# Altium schematic symbol library Micron Memory Serial NOR Flash.SchLib: 207 symbols (part 7 of 12)
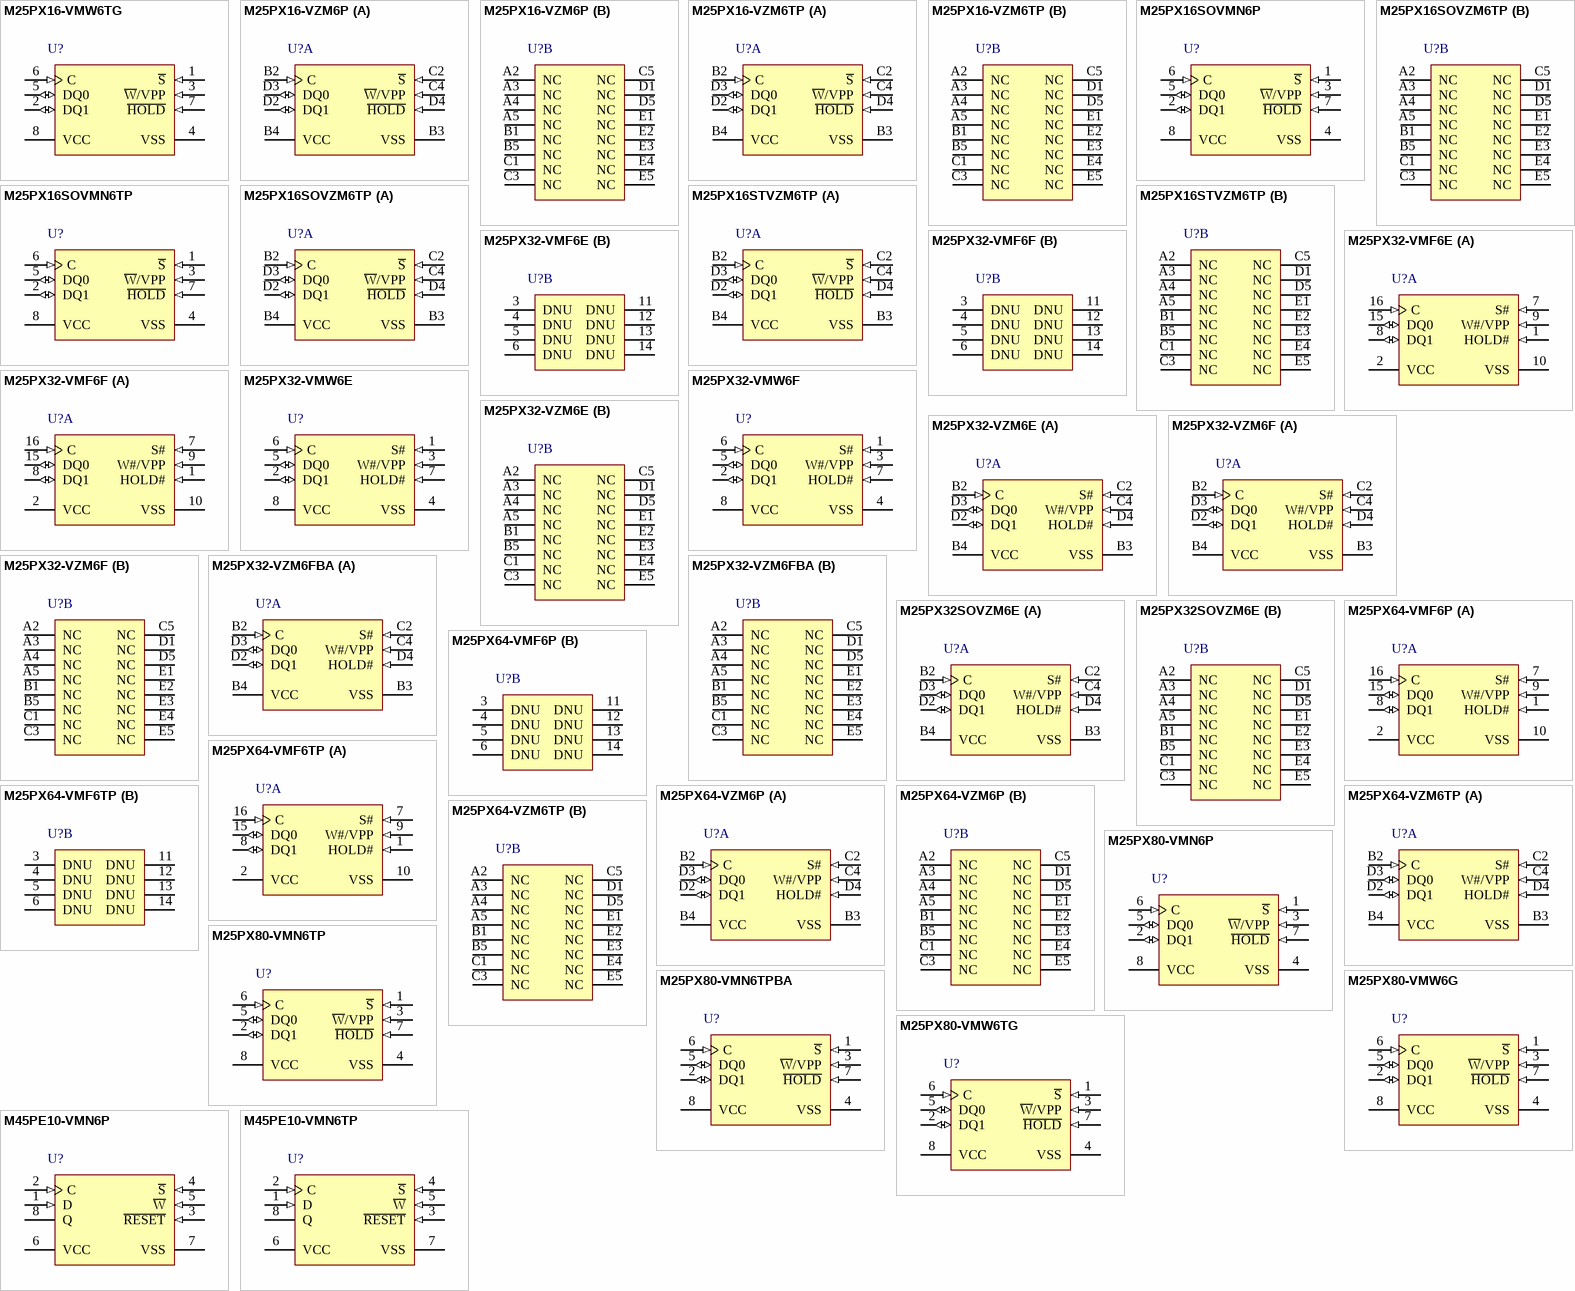
[diagram p13: symbols M25PX16-VMW6TG to M45PE10-VMN6TP]

## M25PX32-VZM6E
designator U?
32 Mb (x1/x2) Serial NOR Flash Memory with Dual I/O, 75 MHz, 2.7 to 3.6 V, 24-ball TBGA (ZM), Tray; Part Family: M25PX; Manufacturer: Micron; PartNumber: M25PX32-VZM6E; Density: 32Mb; Speed: 75 MHz; Voltage: 2.7V-3.6V; DatasheetVersion: Rev.A; PackageVersion: Rev. 8; PackageReference: MICT-ZM-24; PackageDescription: 24-Ball TPBGA, 8 X 6 mm, Pitch 1 mm; Applications: Embedded; Package: TBGA; Part Status: Production; RoHS: Yes; Type: Dual I/O; Width: x1/x2; Mounting Technology: Surface Mount; ComponentLink1Description: Manufacturer URL; ComponentLink1URL: http://www.micron.com/; ComponentLink2Description: Datasheet; ComponentLink2URL: http://www.micron.com/~/media/Documents/Products/Data%20Sheet/NOR%20Flash/Serial%20NOR/M25P/M25P128.pdf; ComponentLink3Description: Package Specification; ComponentLink3URL: http://www.micron.com/~/media/Documents/Products/Data%20Sheet/NOR%20Flash/Serial%20NOR/M25P/M25P16.pdf
footprint MICT-ZM-24 (BGA, 24-Balls, Body 8x6mm,Pitch 1mm)
part A pins: B2 C (in) "Clock: The C input signal provides the timing of the serial interface. Commands, addresses, or data present at serial data input (DQ0) is latched on the rising edge of the serial clock (C). Data on DQ1 changes after the (See Datasheet)", B3 VSS (power) "Ground: Reference for the VCC supply voltage.", B4 VCC (power) "Device core power supply: Source voltage.", C2 S# (in) "Chip select: When the S# input signal is HIGH, the device is deselected and DQ1 is at HIGH impedance. Unless an internal PROGRAM, ERASE, or WRITE STATUS REGISTER cycle is in progress, the device will be in the standby power (See Datasheet)", C4 W#/VPP (in) "Write protect/enhanced program supply voltage:The W#/VPP signal is both a control input and a power supply pin. The two functions are selected by the voltage range applied to the pin. If the W#/VPP input is kept in a low (See Datasheet)", D2 DQ1 (io) "Serial data: The DQ1 output signal is used to transfer data serially out of the device. Data is shifted out on the falling edge of the serial clock (C). During the DUAL INPUT FAST PROGRAM command, pin DQ1 is used as an input.(See Datasheet)", D3 DQ0 (io) "Serial data: The DQ0 input signal is used to transfer data serially into the device. It receives commands, addresses, and the data to be programmed. Values are latched on the rising edge of the serial clock (C). During the (See Datasheet)", D4 HOLD# (in) "Hold: The HOLD# signal is used to pause any serial communications with the device without deselecting the device. During the hold condition, DQ1 is High-Z. DQ0 and C are "Don’t Care." To start the hold condition, the device (See Datasheet)"
part B pins: A2 NC "no connect.", A3 NC "no connect.", A4 NC "no connect.", A5 NC "no connect.", B1 NC "no connect.", B5 NC "no connect.", C1 NC "no connect.", C3 NC "no connect.", C5 NC "no connect.", D1 NC "no connect.", D5 NC "no connect.", E1 NC "no connect.", E2 NC "no connect.", E3 NC "no connect.", E4 NC "no connect.", E5 NC "no connect."

## M25PX32-VZM6F
designator U?
32 Mb (x1/x2) Serial NOR Flash Memory with Dual I/O, 75 MHz, 2.7 to 3.6 V, 24-ball TBGA (ZM), Tape & Reel; Part Family: M25PX; Manufacturer: Micron; PartNumber: M25PX32-VZM6F; Density: 32Mb; Speed: 75 MHz; Voltage: 2.7V-3.6V; DatasheetVersion: Rev.A; PackageVersion: Rev. 8; PackageReference: MICT-ZM-24; PackageDescription: 24-Ball TPBGA, 8 X 6 mm, Pitch 1 mm; Applications: Embedded; Package: TBGA; Part Status: Production; RoHS: Yes; Type: Dual I/O; Width: x1/x2; Mounting Technology: Surface Mount; ComponentLink1Description: Manufacturer URL; ComponentLink1URL: http://www.micron.com/; ComponentLink2Description: Datasheet; ComponentLink2URL: http://www.micron.com/~/media/Documents/Products/Data%20Sheet/NOR%20Flash/Serial%20NOR/M25P/M25P128.pdf; ComponentLink3Description: Package Specification; ComponentLink3URL: http://www.micron.com/~/media/Documents/Products/Data%20Sheet/NOR%20Flash/Serial%20NOR/M25P/M25P16.pdf
footprint MICT-ZM-24 (BGA, 24-Balls, Body 8x6mm,Pitch 1mm)
part A pins: B2 C (in) "Clock: The C input signal provides the timing of the serial interface. Commands, addresses, or data present at serial data input (DQ0) is latched on the rising edge of the serial clock (C). Data on DQ1 changes after the (See Datasheet)", B3 VSS (power) "Ground: Reference for the VCC supply voltage.", B4 VCC (power) "Device core power supply: Source voltage.", C2 S# (in) "Chip select: When the S# input signal is HIGH, the device is deselected and DQ1 is at HIGH impedance. Unless an internal PROGRAM, ERASE, or WRITE STATUS REGISTER cycle is in progress, the device will be in the standby power (See Datasheet)", C4 W#/VPP (in) "Write protect/enhanced program supply voltage:The W#/VPP signal is both a control input and a power supply pin. The two functions are selected by the voltage range applied to the pin. If the W#/VPP input is kept in a low (See Datasheet)", D2 DQ1 (io) "Serial data: The DQ1 output signal is used to transfer data serially out of the device. Data is shifted out on the falling edge of the serial clock (C). During the DUAL INPUT FAST PROGRAM command, pin DQ1 is used as an input.(See Datasheet)", D3 DQ0 (io) "Serial data: The DQ0 input signal is used to transfer data serially into the device. It receives commands, addresses, and the data to be programmed. Values are latched on the rising edge of the serial clock (C). During the (See Datasheet)", D4 HOLD# (in) "Hold: The HOLD# signal is used to pause any serial communications with the device without deselecting the device. During the hold condition, DQ1 is High-Z. DQ0 and C are "Don’t Care." To start the hold condition, the device (See Datasheet)"
part B pins: A2 NC "no connect.", A3 NC "no connect.", A4 NC "no connect.", A5 NC "no connect.", B1 NC "no connect.", B5 NC "no connect.", C1 NC "no connect.", C3 NC "no connect.", C5 NC "no connect.", D1 NC "no connect.", D5 NC "no connect.", E1 NC "no connect.", E2 NC "no connect.", E3 NC "no connect.", E4 NC "no connect.", E5 NC "no connect."

## M25PX32-VZM6FBA
designator U?
32 Mb (x1/x2) Automotive Serial NOR Flash Memory with Dual I/O, 75 MHz, 2.7 to 3.6 V, 24-ball TBGA (ZM), Tube; Part Family: M25PX; Manufacturer: Micron; PartNumber: M25PX32-VZM6FBA; Density: 32Mb; Speed: 75 MHz; Voltage: 2.7V-3.6V; DatasheetVersion: Rev.A; PackageVersion: Rev. 8; PackageReference: MICT-ZM-24; PackageDescription: 24-Ball TPBGA, 8 X 6 mm, Pitch 1 mm; Applications: Automotive; Package: TBGA; Part Status: Production; RoHS: Yes; Type: Dual I/O; Width: x1/x2; Mounting Technology: Surface Mount; ComponentLink1Description: Manufacturer URL; ComponentLink1URL: http://www.micron.com/; ComponentLink2Description: Datasheet; ComponentLink2URL: http://www.micron.com/~/media/Documents/Products/Data%20Sheet/NOR%20Flash/Serial%20NOR/M25P/M25P128.pdf; ComponentLink3Description: Package Specification; ComponentLink3URL: http://www.micron.com/~/media/Documents/Products/Data%20Sheet/NOR%20Flash/Serial%20NOR/M25P/M25P16.pdf
footprint MICT-ZM-24 (BGA, 24-Balls, Body 8x6mm,Pitch 1mm)
part A pins: B2 C (in) "Clock: The C input signal provides the timing of the serial interface. Commands, addresses, or data present at serial data input (DQ0) is latched on the rising edge of the serial clock (C). Data on DQ1 changes after the (See Datasheet)", B3 VSS (power) "Ground: Reference for the VCC supply voltage.", B4 VCC (power) "Device core power supply: Source voltage.", C2 S# (in) "Chip select: When the S# input signal is HIGH, the device is deselected and DQ1 is at HIGH impedance. Unless an internal PROGRAM, ERASE, or WRITE STATUS REGISTER cycle is in progress, the device will be in the standby power (See Datasheet)", C4 W#/VPP (in) "Write protect/enhanced program supply voltage:The W#/VPP signal is both a control input and a power supply pin. The two functions are selected by the voltage range applied to the pin. If the W#/VPP input is kept in a low (See Datasheet)", D2 DQ1 (io) "Serial data: The DQ1 output signal is used to transfer data serially out of the device. Data is shifted out on the falling edge of the serial clock (C). During the DUAL INPUT FAST PROGRAM command, pin DQ1 is used as an input.(See Datasheet)", D3 DQ0 (io) "Serial data: The DQ0 input signal is used to transfer data serially into the device. It receives commands, addresses, and the data to be programmed. Values are latched on the rising edge of the serial clock (C). During the (See Datasheet)", D4 HOLD# (in) "Hold: The HOLD# signal is used to pause any serial communications with the device without deselecting the device. During the hold condition, DQ1 is High-Z. DQ0 and C are "Don’t Care." To start the hold condition, the device (See Datasheet)"
part B pins: A2 NC "no connect.", A3 NC "no connect.", A4 NC "no connect.", A5 NC "no connect.", B1 NC "no connect.", B5 NC "no connect.", C1 NC "no connect.", C3 NC "no connect.", C5 NC "no connect.", D1 NC "no connect.", D5 NC "no connect.", E1 NC "no connect.", E2 NC "no connect.", E3 NC "no connect.", E4 NC "no connect.", E5 NC "no connect."

## M25PX32SOVZM6E
designator U?
32 Mb (x1/x2) Serial NOR Flash Memory with Dual I/O, 75 MHz, 2.7 to 3.6 V, 24-ball T-PBGA (ZM), Tray; Part Family: M25PX; Manufacturer: Micron; PartNumber: M25PX32SOVZM6E; Density: 32Mb; Speed: 75 MHz; Voltage: 2.7V-3.6V; DatasheetVersion: Rev.A; PackageVersion: Rev. 8; PackageReference: MICT-ZM-24; PackageDescription: 24-Ball TPBGA, 8 X 6 mm, Pitch 1 mm; Applications: Embedded; Package: T-PBGA; Part Status: End of Life; RoHS: Yes; Type: Dual I/O; Width: x1/x2; Mounting Technology: Surface Mount; ComponentLink1Description: Manufacturer URL; ComponentLink1URL: http://www.micron.com/; ComponentLink2Description: Datasheet; ComponentLink2URL: http://www.micron.com/~/media/Documents/Products/Data%20Sheet/NOR%20Flash/Serial%20NOR/M25P/M25P128.pdf; ComponentLink3Description: Package Specification; ComponentLink3URL: http://www.micron.com/~/media/Documents/Products/Data%20Sheet/NOR%20Flash/Serial%20NOR/M25P/M25P16.pdf
footprint MICT-ZM-24 (BGA, 24-Balls, Body 8x6mm,Pitch 1mm)
part A pins: B2 C (in) "Clock: The C input signal provides the timing of the serial interface. Commands, addresses, or data present at serial data input (DQ0) is latched on the rising edge of the serial clock (C). Data on DQ1 changes after the (See Datasheet)", B3 VSS (power) "Ground: Reference for the VCC supply voltage.", B4 VCC (power) "Device core power supply: Source voltage.", C2 S# (in) "Chip select: When the S# input signal is HIGH, the device is deselected and DQ1 is at HIGH impedance. Unless an internal PROGRAM, ERASE, or WRITE STATUS REGISTER cycle is in progress, the device will be in the standby power (See Datasheet)", C4 W#/VPP (in) "Write protect/enhanced program supply voltage:The W#/VPP signal is both a control input and a power supply pin. The two functions are selected by the voltage range applied to the pin. If the W#/VPP input is kept in a low (See Datasheet)", D2 DQ1 (io) "Serial data: The DQ1 output signal is used to transfer data serially out of the device. Data is shifted out on the falling edge of the serial clock (C). During the DUAL INPUT FAST PROGRAM command, pin DQ1 is used as an input.(See Datasheet)", D3 DQ0 (io) "Serial data: The DQ0 input signal is used to transfer data serially into the device. It receives commands, addresses, and the data to be programmed. Values are latched on the rising edge of the serial clock (C). During the (See Datasheet)", D4 HOLD# (in) "Hold: The HOLD# signal is used to pause any serial communications with the device without deselecting the device. During the hold condition, DQ1 is High-Z. DQ0 and C are "Don’t Care." To start the hold condition, the device (See Datasheet)"
part B pins: A2 NC "No connect.", A3 NC "No connect.", A4 NC "No connect.", A5 NC "No connect.", B1 NC "No connect.", B5 NC "No connect.", C1 NC "No connect.", C3 NC "No connect.", C5 NC "No connect.", D1 NC "No connect.", D5 NC "No connect.", E1 NC "No connect.", E2 NC "No connect.", E3 NC "No connect.", E4 NC "No connect.", E5 NC "No connect."

## M25PX64-VMF6P
designator U?
64 Mb (x1/x2) Serial NOR Flash Memory with Dual I/O, 75 MHz, 2.7 to 3.6 V, 16-pin SO16 Wide (MF), Tube; Part Family: M25PX; Manufacturer: Micron; PartNumber: M25PX64-VMF6P; Density: 64Mb; Speed: 75 MHz; Voltage: 2.7V-3.6V; DatasheetVersion: Rev. A; PackageVersion: Rev. A; PackageReference: MICT-MF-16; PackageDescription: 16-Pin SO Wide, 7.5 X 10.3 mm, Pitch 1.27 mm; Applications: Embedded; Package: SO 16 Wide; Part Status: Production; RoHS: Yes; Type: Dual I/O; Width: x1/x2; Mounting Technology: Surface Mount; ComponentLink1Description: Manufacturer URL; ComponentLink1URL: http://www.micron.com/; ComponentLink2Description: Datasheet; ComponentLink2URL: http://www.micron.com/~/media/Documents/Products/Data%20Sheet/NOR%20Flash/Serial%20NOR/M25PX/M25PX64.pdf; ComponentLink3Description: Package Specification; ComponentLink3URL: http://www.micron.com/~/media/Documents/Products/Data%20Sheet/NOR%20Flash/Serial%20NOR/M25P/M25P128.pdf
footprint MICT-MF-16_N (SOIC, 16-Leads, Body 10.5x7.6mm, Pitch 1.27mm, IPC Medium Density)
part A pins: 1 HOLD# (in) "Hold: The HOLD# signal is used to pause any serial communications with the devicewithout deselecting the device. During the hold condition, DQ1 is High-Z. DQ0 and Care "Don’t Care." To start the hold condition, the device (See Datasheet)", 2 VCC (power) "Device core power supply: Source voltage.", 7 S# (in) "Chip select: When the S# input signal is HIGH, the device is deselected and DQ1 is at HIGH impedance. Unless an internal PROGRAM, ERASE, or WRITE STATUS REGISTER cycle is in progress, the device will be in the standby power (See Datasheet)", 8 DQ1 (io) "Serial data: The DQ1 output signal is used to transfer data serially out of the device.Data is shifted out on the falling edge of the serial clock (C). During the DUAL INPUTFAST PROGRAM command, pin DQ1 is used as an input. (See Datasheet)", 9 W#/VPP (in) "Write protect/enhanced program supply voltage:The W#/VPP signal is both a control input and a power supply pin. The two functions are selected by the voltagerange applied to the pin. If the W#/VPP input is kept in a low (See Datasheet)", 10 VSS (power) "Ground: Reference for the VCC supply voltage.", 15 DQ0 (io) "Serial data: The DQ0 input signal is used to transfer data serially into the device. Itreceives commands, addresses, and the data to be programmed. Values are latched on the rising edge of the serial clock (C). During the (See Datasheet)", 16 C (in) "Clock: The C input signal provides the timing of the serial interface. Commands, addresses, or data present at serial data input (DQ0) is latched on the rising edge of the serial clock (C). Data on DQ1 changes after the (See Datasheet)"
part B pins: 3 DNU "Do not use.", 4 DNU "Do not use.", 5 DNU "Do not use.", 6 DNU "Do not use.", 11 DNU "Do not use.", 12 DNU "Do not use.", 13 DNU "Do not use.", 14 DNU "Do not use."

## M25PX64-VMF6TP
designator U?
64 Mb (x1/x2) Serial NOR Flash Memory with Dual I/O, 75 MHz, 2.7 to 3.6 V, 16-pin SO16 Wide (MF), Tape & Reel; Part Family: M25PX; Manufacturer: Micron; PartNumber: M25PX64-VMF6TP; Density: 64Mb; Speed: 75 MHz; Voltage: 2.7V-3.6V; DatasheetVersion: Rev. A; PackageVersion: Rev. A; PackageReference: MICT-MF-16; PackageDescription: 16-Pin SO Wide, 7.5 X 10.3 mm, Pitch 1.27 mm; Applications: Embedded; Package: SO16 Wide; Part Status: Production; RoHS: Yes; Type: Dual I/O; Width: x1/x2; Mounting Technology: Surface Mount; ComponentLink1Description: Manufacturer URL; ComponentLink1URL: http://www.micron.com/; ComponentLink2Description: Datasheet; ComponentLink2URL: http://www.micron.com/~/media/Documents/Products/Data%20Sheet/NOR%20Flash/Serial%20NOR/M25PX/M25PX64.pdf; ComponentLink3Description: Package Specification; ComponentLink3URL: http://www.micron.com/~/media/Documents/Products/Data%20Sheet/NOR%20Flash/Serial%20NOR/M25P/M25P128.pdf
footprint MICT-MF-16_N (SOIC, 16-Leads, Body 10.5x7.6mm, Pitch 1.27mm, IPC Medium Density)
part A pins: 1 HOLD# (in) "Hold: The HOLD# signal is used to pause any serial communications with the devicewithout deselecting the device. During the hold condition, DQ1 is High-Z. DQ0 and Care "Don’t Care." To start the hold condition, the device (See Datasheet)", 2 VCC (power) "Device core power supply: Source voltage.", 7 S# (in) "Chip select: When the S# input signal is HIGH, the device is deselected and DQ1 is at HIGH impedance. Unless an internal PROGRAM, ERASE, or WRITE STATUS REGISTER cycle is in progress, the device will be in the standby power (See Datasheet)", 8 DQ1 (io) "Serial data: The DQ1 output signal is used to transfer data serially out of the device.Data is shifted out on the falling edge of the serial clock (C). During the DUAL INPUTFAST PROGRAM command, pin DQ1 is used as an input. (See Datasheet)", 9 W#/VPP (in) "Write protect/enhanced program supply voltage:The W#/VPP signal is both a control input and a power supply pin. The two functions are selected by the voltagerange applied to the pin. If the W#/VPP input is kept in a low (See Datasheet)", 10 VSS (power) "Ground: Reference for the VCC supply voltage.", 15 DQ0 (io) "Serial data: The DQ0 input signal is used to transfer data serially into the device. Itreceives commands, addresses, and the data to be programmed. Values are latched on the rising edge of the serial clock (C). During the (See Datasheet)", 16 C (in) "Clock: The C input signal provides the timing of the serial interface. Commands, addresses, or data present at serial data input (DQ0) is latched on the rising edge of the serial clock (C). Data on DQ1 changes after the (See Datasheet)"
part B pins: 3 DNU "Do not use.", 4 DNU "Do not use.", 5 DNU "Do not use.", 6 DNU "Do not use.", 11 DNU "Do not use.", 12 DNU "Do not use.", 13 DNU "Do not use.", 14 DNU "Do not use."

## M25PX64-VZM6P
designator U?
64 Mb (x1/x2) Serial NOR Flash Memory with Dual I/O, 75 MHz, 2.7 to 3.6 V, 24-ball TBGA (ZM), Tray; Part Family: M25PX; Manufacturer: Micron; PartNumber: M25PX64-VZM6P; Density: 64Mb; Speed: 75 MHz; Voltage: 2.7V-3.6V; DatasheetVersion: Rev. A; PackageVersion: Rev. 8; PackageReference: MICT-ZM-24; PackageDescription: 24-Ball TPBGA, 8 X 6 mm, Pitch 1 mm; Applications: Embedded; Package: TBGA; Part Status: Production; RoHS: Yes; Type: Dual I/O; Width: x1/x2; Mounting Technology: Surface Mount; ComponentLink1Description: Manufacturer URL; ComponentLink1URL: http://www.micron.com/; ComponentLink2Description: Datasheet; ComponentLink2URL: http://www.micron.com/~/media/Documents/Products/Data%20Sheet/NOR%20Flash/Serial%20NOR/M25PX/M25PX64.pdf; ComponentLink3Description: Package Specification; ComponentLink3URL: http://www.micron.com/~/media/Documents/Products/Data%20Sheet/NOR%20Flash/Serial%20NOR/M25P/M25P16.pdf
footprint MICT-ZM-24 (BGA, 24-Balls, Body 8x6mm,Pitch 1mm)
part A pins: B2 C (in) "Clock: The C input signal provides the timing of the serial interface. Commands, addresses, or data present at serial data input (DQ0) is latched on the rising edge of the serial clock (C). Data on DQ1 changes after the (See Datasheet)", B3 VSS (power) "Ground: Reference for the VCC supply voltage", B4 VCC (power) "Device core power supply: Source voltage.", C2 S# (in) "Chip select: When the S# input signal is HIGH, the device is deselected and DQ1 is at HIGH impedance. Unless an internal PROGRAM, ERASE, or WRITE STATUS REGISTER cycle is in progress, the device will be in the standby power (See Datasheet)", C4 W#/VPP (in) "Write protect/enhanced program supply voltage:The W#/VPP signal is both a control input and a power supply pin. The two functions are selected by the voltage range applied to the pin. If the W#/VPP input is kept in a low (See Datasheet)", D2 DQ1 (io) "Serial data: The DQ1 output signal is used to transfer data serially out of the device. Data is shifted out on the falling edge of the serial clock (C). During the DUAL INPUT FAST PROGRAM command, pin DQ1 is used as an input.(See Datasheet)", D3 DQ0 (io) "Serial data: The DQ0 input signal is used to transfer data serially into the device. It receives commands, addresses, and the data to be programmed. Values are latched on the rising edge of the serial clock (C). During the (See Datasheet)", D4 HOLD# (in) "Hold: The HOLD# signal is used to pause any serial communications with the device without deselecting the device. During the hold condition, DQ1 is High-Z. DQ0 and C are "Don’t Care." To start the hold condition, the device (See Datasheet)"
part B pins: A2 NC "No connect.", A3 NC "No connect.", A4 NC "No connect.", A5 NC "No connect.", B1 NC "No connect.", B5 NC "No connect.", C1 NC "No connect.", C3 NC "No connect.", C5 NC "No connect.", D1 NC "No connect.", D5 NC "No connect.", E1 NC "No connect.", E2 NC "No connect.", E3 NC "No connect.", E4 NC "No connect.", E5 NC "No connect."

## M25PX64-VZM6TP
designator U?
64 Mb (x1/x2) Serial NOR Flash Memory with Dual I/O, 75 MHz, 2.7 to 3.6 V, 24-ball T-PBGA (ZM), Tape & Reel; Part Family: M25PX; Manufacturer: Micron; PartNumber: M25PX64-VZM6TP; Density: 64Mb; Speed: 75 MHz; Voltage: 2.7V-3.6V; DatasheetVersion: Rev. A; PackageVersion: Rev. 8; PackageReference: MICT-ZM-24; PackageDescription: 24-Ball TPBGA, 8 X 6 mm, Pitch 1 mm; Applications: Embedded; Package: T-PBGA; Part Status: Production; RoHS: Yes; Type: Dual I/O; Width: x1/x2; Mounting Technology: Surface Mount; ComponentLink1Description: Manufacturer URL; ComponentLink1URL: http://www.micron.com/; ComponentLink2Description: Datasheet; ComponentLink2URL: http://www.micron.com/~/media/Documents/Products/Data%20Sheet/NOR%20Flash/Serial%20NOR/M25PX/M25PX64.pdf; ComponentLink3Description: Package Specification; ComponentLink3URL: http://www.micron.com/~/media/Documents/Products/Data%20Sheet/NOR%20Flash/Serial%20NOR/M25P/M25P16.pdf
footprint MICT-ZM-24 (BGA, 24-Balls, Body 8x6mm,Pitch 1mm)
part A pins: B2 C (in) "Clock: The C input signal provides the timing of the serial interface. Commands, addresses, or data present at serial data input (DQ0) is latched on the rising edge of the serial clock (C). Data on DQ1 changes after the (See Datasheet)", B3 VSS (power) "Ground: Reference for the VCC supply voltage", B4 VCC (power) "Device core power supply: Source voltage.", C2 S# (in) "Chip select: When the S# input signal is HIGH, the device is deselected and DQ1 is at HIGH impedance. Unless an internal PROGRAM, ERASE, or WRITE STATUS REGISTER cycle is in progress, the device will be in the standby power (See Datasheet)", C4 W#/VPP (in) "Write protect/enhanced program supply voltage:The W#/VPP signal is both a control input and a power supply pin. The two functions are selected by the voltage range applied to the pin. If the W#/VPP input is kept in a low (See Datasheet)", D2 DQ1 (io) "Serial data: The DQ1 output signal is used to transfer data serially out of the device. Data is shifted out on the falling edge of the serial clock (C). During the DUAL INPUT FAST PROGRAM command, pin DQ1 is used as an input.(See Datasheet)", D3 DQ0 (io) "Serial data: The DQ0 input signal is used to transfer data serially into the device. It receives commands, addresses, and the data to be programmed. Values are latched on the rising edge of the serial clock (C). During the (See Datasheet)", D4 HOLD# (in) "Hold: The HOLD# signal is used to pause any serial communications with the device without deselecting the device. During the hold condition, DQ1 is High-Z. DQ0 and C are "Don’t Care." To start the hold condition, the device (See Datasheet)"
part B pins: A2 NC "No connect.", A3 NC "No connect.", A4 NC "No connect.", A5 NC "No connect.", B1 NC "No connect.", B5 NC "No connect.", C1 NC "No connect.", C3 NC "No connect.", C5 NC "No connect.", D1 NC "No connect.", D5 NC "No connect.", E1 NC "No connect.", E2 NC "No connect.", E3 NC "No connect.", E4 NC "No connect.", E5 NC "No connect."

## M25PX80-VMN6P
designator U?
8 Mb (x1/x2) Serial NOR Flash Memory with Dual I/O, 75 MHz, 2.3 to 3.6 V, 8-pin SO8 Narrow (MN), Tube; Part Family: M25PX; Manufacturer: Micron; PartNumber: M25PX80-VMN6P; Density: 8Mb; Speed: 75 MHz; Voltage: 2.3V-3.6V; DatasheetVersion: Rev. 4; PackageVersion: Rev 11; PackageReference: MICT-MN-8; PackageDescription: 8-Pin SO Narrow, 3.9 X 4.9 mm, Pitch 1.27 mm; Applications: Embedded; Package: SO8 Narrow; Part Status: Production; RoHS: Yes; Type: Dual I/O; Width: x1/x2; Mounting Technology: Through Hole; ComponentLink1Description: Manufacturer URL; ComponentLink1URL: http://www.micron.com/; ComponentLink2Description: Datasheet; ComponentLink2URL: http://www.micron.com/~/media/Documents/Products/Data%20Sheet/NOR%20Flash/M25PX80.pdf; ComponentLink3Description: Package Specification; ComponentLink3URL: http://www.micron.com/~/media/Documents/Products/Data%20Sheet/NOR%20Flash/Serial%20NOR/M25P/M25P05A.pdf
footprint MICT-MN-8_N (SOIC, 8-Leads, Body 5x4mm, Pitch 1.27mm, IPC Medium Density)
pins: 1 ~{S} (in) "Chip Select (S\):When this input signal is High, the device is deselected and Serial Data output (DQ1) is at high impedance. Unless an internal Program, Erase or Write Status Register cycle is in progress, the device will be (See Datasheet)", 2 DQ1 (io) "This output signal is used to transfer data serially out of the device. Data are shifted out on the falling edge of Serial Clock (C).During the Dual Input Fast Program (DIFP) instruction, pin DQ1 is used as an input. It is (See Datasheet)", 3 ~{W}/VPP (in) "Write Protect/Enhanced Program supply voltage (W\/VPP):W\/VPP is both a control input and a power supply pin. The two functions are selected by the voltage range applied to the pin.If the W\/VPP input is kept in a low (See Datasheet)", 4 VSS (power) "VSS ground:VSS is the reference for the VCC supply voltage.", 5 DQ0 (io) "This input signal is used to transfer data serially into the device. It receives instructions,addresses, and the data to be programmed. Values are latched on the rising edge of Serial Clock (C).During the Dual Output Fast (See Datasheet)", 6 C (in) "Serial Clock (C):This input signal provides the timing of the serial interface. Instructions, addresses, or data present at Serial Data input (DQ0) are latched on the rising edge of Serial Clock (C). Data on Serial Data (See Datasheet)", 7 ~{HOLD} (in) "Hold (H\O\L\D\):The Hold (H\O\L\D\) signal is used to pause any serial communications with the device without deselecting the device.During the Hold condition, the Serial Data output (DQ1) is high impedance, and Serial Data (See Datasheet)", 8 VCC (power) "VCC supply voltage:VCC is the supply voltage."

## M25PX80-VMN6TP
designator U?
8 Mb (x1/x2) Serial NOR Flash Memory with Dual I/O, 75 MHz, 2.3 to 3.6 V, 8-pin SO8 Narrow (MN), Tape & Reel; Part Family: M25PX; Manufacturer: Micron; PartNumber: M25PX80-VMN6TP; Density: 8Mb; Speed: 75 MHz; Voltage: 2.3V-3.6V; DatasheetVersion: Rev. 4; PackageVersion: Rev 11; PackageReference: MICT-MN-8; PackageDescription: 8-Pin SO Narrow, 3.9 X 4.9 mm, Pitch 1.27 mm; Applications: Embedded; Package: SO8 Narrow; Part Status: Production; RoHS: Yes; Type: Dual I/O; Width: x1/x2; Mounting Technology: Surface Mount; ComponentLink1Description: Manufacturer URL; ComponentLink1URL: http://www.micron.com/; ComponentLink2Description: Datasheet; ComponentLink2URL: http://www.micron.com/~/media/Documents/Products/Data%20Sheet/NOR%20Flash/M25PX80.pdf; ComponentLink3Description: Package Specification; ComponentLink3URL: http://www.micron.com/~/media/Documents/Products/Data%20Sheet/NOR%20Flash/Serial%20NOR/M25P/M25P05A.pdf
footprint MICT-MN-8_N (SOIC, 8-Leads, Body 5x4mm, Pitch 1.27mm, IPC Medium Density)
pins: 1 ~{S} (in) "Chip Select (S\):When this input signal is High, the device is deselected and Serial Data output (DQ1) is at high impedance. Unless an internal Program, Erase or Write Status Register cycle is in progress, the device will be (See Datasheet)", 2 DQ1 (io) "This output signal is used to transfer data serially out of the device. Data are shifted out on the falling edge of Serial Clock (C).During the Dual Input Fast Program (DIFP) instruction, pin DQ1 is used as an input. It is (See Datasheet)", 3 ~{W}/VPP (in) "Write Protect/Enhanced Program supply voltage (W\/VPP):W\/VPP is both a control input and a power supply pin. The two functions are selected by the voltage range applied to the pin.If the W\/VPP input is kept in a low (See Datasheet)", 4 VSS (power) "VSS ground:VSS is the reference for the VCC supply voltage.", 5 DQ0 (io) "This input signal is used to transfer data serially into the device. It receives instructions,addresses, and the data to be programmed. Values are latched on the rising edge of Serial Clock (C).During the Dual Output Fast (See Datasheet)", 6 C (in) "Serial Clock (C):This input signal provides the timing of the serial interface. Instructions, addresses, or data present at Serial Data input (DQ0) are latched on the rising edge of Serial Clock (C). Data on Serial Data (See Datasheet)", 7 ~{HOLD} (in) "Hold (H\O\L\D\):The Hold (H\O\L\D\) signal is used to pause any serial communications with the device without deselecting the device.During the Hold condition, the Serial Data output (DQ1) is high impedance, and Serial Data (See Datasheet)", 8 VCC (power) "VCC supply voltage:VCC is the supply voltage."

## M25PX80-VMN6TPBA
designator U?
8 Mb (x1/x2) Automotive Serial NOR Flash Memory with Dual I/O, 75 MHz, 2.7 to 3.6 V, 8-pin SO8 Narrow (MN), Tape & Reel; Part Family: M25PX; Manufacturer: Micron; PartNumber: M25PX80-VMN6TPBA; Density: 8Mb; Speed: 75 MHz; Voltage: 2.7V-3.6V; DatasheetVersion: Rev. 4; PackageVersion: Rev 11; PackageReference: MICT-MN-8; PackageDescription: 8-Pin SO Narrow, 3.9 X 4.9 mm, Pitch 1.27 mm; Applications: Automotive; Package: SO8 Narrow; Part Status: Production; RoHS: Yes; Type: Dual I/O; Width: x1/x2; Mounting Technology: Surface Mount; ComponentLink1Description: Manufacturer URL; ComponentLink1URL: http://www.micron.com/; ComponentLink2Description: Datasheet; ComponentLink2URL: http://www.micron.com/~/media/Documents/Products/Data%20Sheet/NOR%20Flash/M25PX80.pdf; ComponentLink3Description: Package Specification; ComponentLink3URL: http://www.micron.com/~/media/Documents/Products/Data%20Sheet/NOR%20Flash/Serial%20NOR/M25P/M25P05A.pdf
footprint MICT-MN-8_N (SOIC, 8-Leads, Body 5x4mm, Pitch 1.27mm, IPC Medium Density)
pins: 1 ~{S} (in) "Chip Select (S\):When this input signal is High, the device is deselected and Serial Data output (DQ1) is at high impedance. Unless an internal Program, Erase or Write Status Register cycle is in progress, the device will be (See Datasheet)", 2 DQ1 (io) "This output signal is used to transfer data serially out of the device. Data are shifted out on the falling edge of Serial Clock (C).During the Dual Input Fast Program (DIFP) instruction, pin DQ1 is used as an input. It is (See Datasheet)", 3 ~{W}/VPP (in) "Write Protect/Enhanced Program supply voltage (W\/VPP):W\/VPP is both a control input and a power supply pin. The two functions are selected by the voltage range applied to the pin.If the W\/VPP input is kept in a low (See Datasheet)", 4 VSS (power) "VSS ground:VSS is the reference for the VCC supply voltage.", 5 DQ0 (io) "This input signal is used to transfer data serially into the device. It receives instructions,addresses, and the data to be programmed. Values are latched on the rising edge of Serial Clock (C).During the Dual Output Fast (See Datasheet)", 6 C (in) "Serial Clock (C):This input signal provides the timing of the serial interface. Instructions, addresses, or data present at Serial Data input (DQ0) are latched on the rising edge of Serial Clock (C). Data on Serial Data (See Datasheet)", 7 ~{HOLD} (in) "Hold (H\O\L\D\):The Hold (H\O\L\D\) signal is used to pause any serial communications with the device without deselecting the device.During the Hold condition, the Serial Data output (DQ1) is high impedance, and Serial Data (See Datasheet)", 8 VCC (power) "VCC supply voltage:VCC is the supply voltage."

## M25PX80-VMW6G
designator U?
8 Mb (x1/x2) Serial NOR Flash Memory with Dual I/O, 75 MHz, 2.3 to 3.6 V, 8-pin SO8 Wide (MW), Tube; Part Family: M25PX; Manufacturer: Micron; PartNumber: M25PX80-VMW6G; Density: 8Mb; Speed: 75 MHz; Voltage: 2.3V-3.6V; DatasheetVersion: Rev. 4; PackageVersion: Rev 8; PackageReference: MICT-MW-8; PackageDescription: 8-Pin SO Wide, 5.62 X 6.05 mm, Pitch 1.27 mm; Applications: Embedded; Package: SO8 Wide; Part Status: Production; RoHS: Yes; Type: Dual I/O; Width: x1/x2; Mounting Technology: Surface Mount; ComponentLink1Description: Manufacturer URL; ComponentLink1URL: http://www.micron.com/; ComponentLink2Description: Datasheet; ComponentLink2URL: http://www.micron.com/~/media/Documents/Products/Data%20Sheet/NOR%20Flash/M25PX80.pdf; ComponentLink3Description: Package Specification; ComponentLink3URL: http://www.micron.com/~/media/Documents/Products/Data%20Sheet/NOR%20Flash/Serial%20NOR/M25P/M25P16.pdf
footprint MICT-MW-8_N (SOIC, 8-Leads, Body 6.2x6.1mm, Pitch 1.27mm, IPC Medium Density)
pins: 1 ~{S} (in) "When this input signal is High, the device is deselected and Serial Data output (DQ1) is at high impedance. Unless an internal Program, Erase or Write Status Register cycle is in progress, the device will be in the Standby (See Datasheet)", 2 DQ1 (io) "This output signal is used to transfer data serially out of the device. Data are shifted out on the falling edge of Serial Clock (C).During the Dual Input Fast Program (DIFP) instruction, pin DQ1 is used as an input. It is (See Datasheet)", 3 ~{W}/VPP (in) "W\/VPP is both a control input and a power supply pin. The two functions are selected by the voltage range applied to the pin.If the W\/VPP input is kept in a low voltage range (0 V to VCC) the pin is seen as a control input.(See Datasheet)", 4 VSS (power) "VSS is the reference for the VCC supply voltage.", 5 DQ0 (io) "This input signal is used to transfer data serially into the device. It receives instructions,addresses, and the data to be programmed. Values are latched on the rising edge of Serial Clock (C).During the Dual Output Fast (See Datasheet)", 6 C (in) "This input signal provides the timing of the serial interface. Instructions, addresses, or data present at Serial Data input (DQ0) are latched on the rising edge of Serial Clock (C). Data on Serial Data output (DQ1) changes (See Datasheet)", 7 ~{HOLD} (in) "The Hold (H\O\L\D\) signal is used to pause any serial communications with the device without deselecting the device. During the Hold condition, the Serial Data output (DQ1) is high impedance, and Serial Data input (DQ0) and (See Datasheet)", 8 VCC (power) "VCC is the supply voltage."

## M25PX80-VMW6TG
designator U?
8 Mb (x1/x2) Serial NOR Flash Memory with Dual I/O, 75 MHz, 2.3 to 3.6 V, 8-pin SO8 Wide (MW), Tape & Reel; Part Family: M25PX; Manufacturer: Micron; PartNumber: M25PX80-VMW6TG; Density: 8Mb; Speed: 75 MHz; Voltage: 2.3V-3.6V; DatasheetVersion: Rev. 4; PackageVersion: Rev 8; PackageReference: MICT-MW-8; PackageDescription: 8-Pin SO Wide, 5.62 X 6.05 mm, Pitch 1.27 mm; Applications: Embedded; Package: SO8 Wide; Part Status: Production; RoHS: Yes; Type: Dual I/O; Width: x1/x2; Mounting Technology: Surface Mount; ComponentLink1Description: Manufacturer URL; ComponentLink1URL: http://www.micron.com/; ComponentLink2Description: Datasheet; ComponentLink2URL: http://www.micron.com/~/media/Documents/Products/Data%20Sheet/NOR%20Flash/M25PX80.pdf; ComponentLink3Description: Package Specification; ComponentLink3URL: http://www.micron.com/~/media/Documents/Products/Data%20Sheet/NOR%20Flash/Serial%20NOR/M25P/M25P16.pdf
footprint MICT-MW-8_N (SOIC, 8-Leads, Body 6.2x6.1mm, Pitch 1.27mm, IPC Medium Density)
pins: 1 ~{S} (in) "When this input signal is High, the device is deselected and Serial Data output (DQ1) is at high impedance. Unless an internal Program, Erase or Write Status Register cycle is in progress, the device will be in the Standby (See Datasheet)", 2 DQ1 (io) "This output signal is used to transfer data serially out of the device. Data are shifted out on the falling edge of Serial Clock (C).During the Dual Input Fast Program (DIFP) instruction, pin DQ1 is used as an input. It is (See Datasheet)", 3 ~{W}/VPP (in) "W\/VPP is both a control input and a power supply pin. The two functions are selected by the voltage range applied to the pin.If the W\/VPP input is kept in a low voltage range (0 V to VCC) the pin is seen as a control input.(See Datasheet)", 4 VSS (power) "VSS is the reference for the VCC supply voltage.", 5 DQ0 (io) "This input signal is used to transfer data serially into the device. It receives instructions,addresses, and the data to be programmed. Values are latched on the rising edge of Serial Clock (C).During the Dual Output Fast (See Datasheet)", 6 C (in) "This input signal provides the timing of the serial interface. Instructions, addresses, or data present at Serial Data input (DQ0) are latched on the rising edge of Serial Clock (C). Data on Serial Data output (DQ1) changes (See Datasheet)", 7 ~{HOLD} (in) "The Hold (H\O\L\D\) signal is used to pause any serial communications with the device without deselecting the device. During the Hold condition, the Serial Data output (DQ1) is high impedance, and Serial Data input (DQ0) and (See Datasheet)", 8 VCC (power) "VCC is the supply voltage."

## M45PE10-VMN6P
designator U?
1 Mb (x1) Serial NOR Flash Memory with Page Erase, 75 MHz, 2.7 to 3.6 V, 8-pin SO8 Narrow (MN), Tube; Part Family: M45PE; Manufacturer: Micron; PartNumber: M45PE10-VMN6P; Density: 1Mb; Speed: 75 MHz; Voltage: 2.7V-3.6V; DatasheetVersion: Rev. 8; PackageVersion: Rev 11; PackageReference: MICT-MN-8; PackageDescription: 8-Pin SO Narrow, 3.9 X 4.9 mm, Pitch 1.27 mm; Applications: Embedded; Package: SO8 Narrow; Part Status: Production; RoHS: Yes; Type: Page Erase; Width: x1; Mounting Technology: Surface Mount; ComponentLink1Description: Manufacturer URL; ComponentLink1URL: http://www.micron.com/; ComponentLink2Description: Datasheet; ComponentLink2URL: http://www.micron.com/~/media/Documents/Products/Data%20Sheet/NOR%20Flash/Serial%20NOR/M25PE_M45PE/M45PE10.pdf; ComponentLink3Description: Package Specification; ComponentLink3URL: http://www.micron.com/~/media/Documents/Products/Data%20Sheet/NOR%20Flash/Serial%20NOR/M25P/M25P05A.pdf
footprint MICT-MN-8_N (SOIC, 8-Leads, Body 5x4mm, Pitch 1.27mm, IPC Medium Density)
pins: 1 D (in) "This input signal is used to transfer data serially into the device. It receives instructions, addresses, and the data to be programmed. Values are latched on the rising edge of Serial Clock (C).", 2 C (in) "This input signal provides the timing of the serial interface. Instructions, addresses, or data present at serial data input (D) are latched on the rising edge of Serial Clock (C). Data on serial data output (Q) changes (See Datasheet)", 3 ~{RESET} (in) "The Reset (R\e\s\e\t\) input provides a hardware reset for the memory. In this mode, the outputs are high impedance.When Reset (R\e\s\e\t\) is driven High, the memory is in the normal operating mode. When Reset (R\e\s\e\t\) (See Datasheet)", 4 ~{S} (in) "When this input signal is High, the device is deselected and serial data output (Q) is at high impedance. Unless an internal read, program, erase or write cycle is in progress, the device will be in the standby mode (this is (See Datasheet)", 5 ~{W} (in) "This input signal puts the device in the hardware protected mode, when Write Protect (W\) is connected to VSS, causing the first 256 pages of memory to become read-only by protecting them from write, program and erase (See Datasheet)", 6 VCC (power) "VCC is the supply voltage", 7 VSS (power) "VSS is the reference for the VCC supply voltage", 8 Q (hiz) "This output signal is used to transfer data serially out of the device. Data is shifted out on the falling edge of Serial Clock (C)."

## M45PE10-VMN6TP
designator U?
1 Mb (x1) Serial NOR Flash Memory with Page Erase, 75 MHz, 2.7 to 3.6 V, 8-pin SO8 Narrow (MN), Tape & Reel; Part Family: M45PE; Manufacturer: Micron; PartNumber: M45PE10-VMN6TP; Density: 1Mb; Speed: 75 MHz; Voltage: 2.7V-3.6V; DatasheetVersion: Rev. 8; PackageVersion: Rev 11; PackageReference: MICT-MN-8; PackageDescription: 8-Pin SO Narrow, 3.9 X 4.9 mm, Pitch 1.27 mm; Applications: Embedded; Package: SO8 Narrow; Part Status: Production; RoHS: Yes; Type: Page Erase; Width: x1; Mounting Technology: Surface Mount; ComponentLink1Description: Manufacturer URL; ComponentLink1URL: http://www.micron.com/; ComponentLink2Description: Datasheet; ComponentLink2URL: http://www.micron.com/~/media/Documents/Products/Data%20Sheet/NOR%20Flash/Serial%20NOR/M25PE_M45PE/M45PE10.pdf; ComponentLink3Description: Package Specification; ComponentLink3URL: http://www.micron.com/~/media/Documents/Products/Data%20Sheet/NOR%20Flash/Serial%20NOR/M25P/M25P05A.pdf
footprint MICT-MN-8_N (SOIC, 8-Leads, Body 5x4mm, Pitch 1.27mm, IPC Medium Density)
pins: 1 D (in) "This input signal is used to transfer data serially into the device. It receives instructions, addresses, and the data to be programmed. Values are latched on the rising edge of Serial Clock (C).", 2 C (in) "This input signal provides the timing of the serial interface. Instructions, addresses, or data present at serial data input (D) are latched on the rising edge of Serial Clock (C). Data on serial data output (Q) changes (See Datasheet)", 3 ~{RESET} (in) "The Reset (R\e\s\e\t\) input provides a hardware reset for the memory. In this mode, the outputs are high impedance.When Reset (R\e\s\e\t\) is driven High, the memory is in the normal operating mode. When Reset (R\e\s\e\t\) (See Datasheet)", 4 ~{S} (in) "When this input signal is High, the device is deselected and serial data output (Q) is at high impedance. Unless an internal read, program, erase or write cycle is in progress, the device will be in the standby mode (this is (See Datasheet)", 5 ~{W} (in) "This input signal puts the device in the hardware protected mode, when Write Protect (W\) is connected to VSS, causing the first 256 pages of memory to become read-only by protecting them from write, program and erase (See Datasheet)", 6 VCC (power) "VCC is the supply voltage", 7 VSS (power) "VSS is the reference for the VCC supply voltage", 8 Q (hiz) "This output signal is used to transfer data serially out of the device. Data is shifted out on the falling edge of Serial Clock (C)."

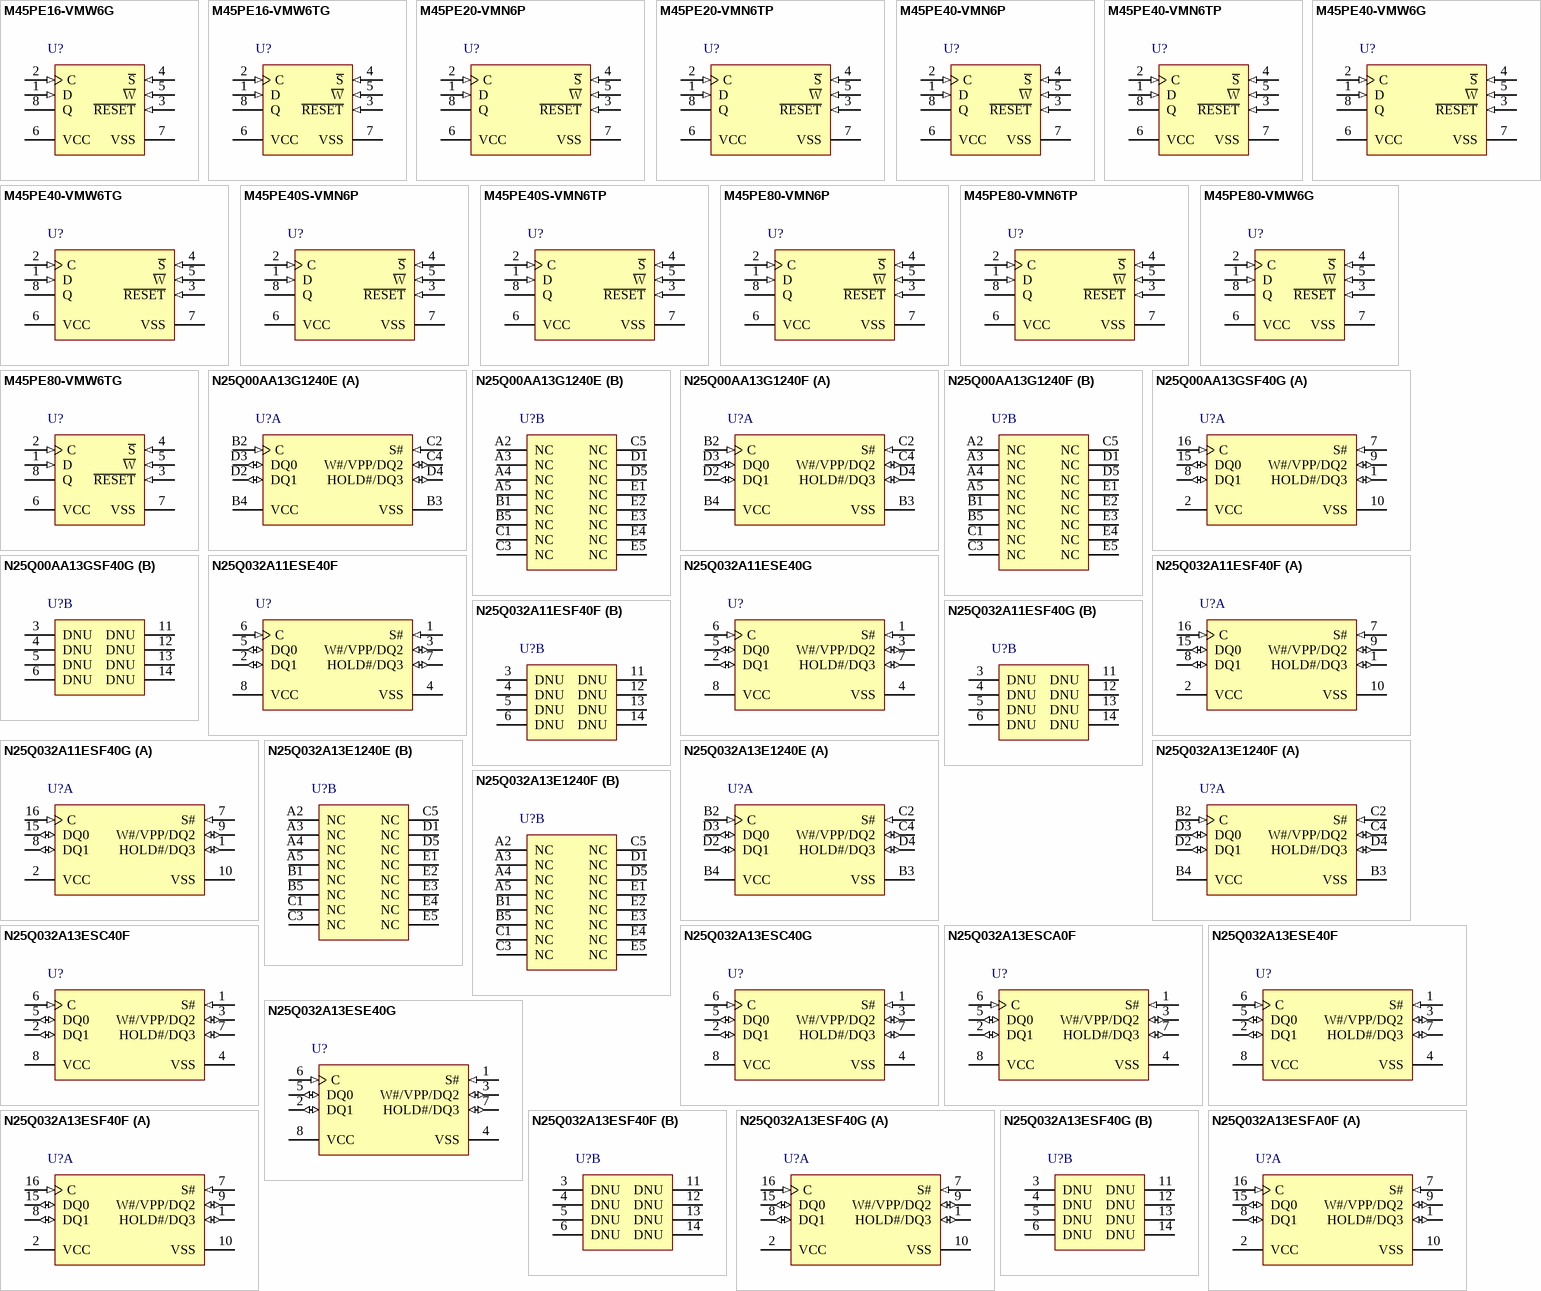
[diagram p4: symbols M45PE16-VMW6G to N25Q032A13ESFA0F]

## M45PE16-VMW6G
designator U?
16 Mb (x1) Serial NOR Flash Memory with Page Erase, 75 MHz, 2.7 to 3.6 V, 8-pin SO8 Wide (MW), Tube; Part Family: M45PE; Manufacturer: Micron; PartNumber: M45PE16-VMW6G; Density: 16Mb; Speed: 75 MHz; Voltage: 2.7V-3.6V; DatasheetVersion: Rev. 8; PackageVersion: Rev 8; PackageReference: MICT-MW-8; PackageDescription: 8-Pin SO Wide, 5.62 X 6.05 mm, Pitch 1.27 mm; Applications: Embedded; Package: SO8 Wide; Part Status: Production; RoHS: Yes; Type: Page Erase; Width: x1; Mounting Technology: Surface Mount; ComponentLink1Description: Manufacturer URL; ComponentLink1URL: http://www.micron.com/; ComponentLink2Description: Datasheet; ComponentLink2URL: http://www.micron.com/~/media/Documents/Products/Data%20Sheet/NOR%20Flash/Serial%20NOR/M25PE_M45PE/M45PE16.pdf; ComponentLink3Description: Package Specification; ComponentLink3URL: http://www.micron.com/~/media/Documents/Products/Data%20Sheet/NOR%20Flash/Serial%20NOR/M25P/M25P16.pdf
footprint MICT-MW-8_N (SOIC, 8-Leads, Body 6.2x6.1mm, Pitch 1.27mm, IPC Medium Density)
pins: 1 D (in) "This input signal is used to transfer data serially into the device. It receives instructions, addresses, and the data to be programmed. Values are latched on the rising edge of Serial Clock (C).", 2 C (in) "This input signal provides the timing of the serial interface. Instructions, addresses, or data present at serial data input (D) are latched on the rising edge of Serial Clock (C). Data on serial data output (Q) changes (See Datasheet)", 3 ~{RESET} (in) "The Reset (R\e\s\e\t\) input provides a hardware reset for the memory. When Reset (R\e\s\e\t\) is driven High, the memory is in the normal operating mode. When Reset (R\e\s\e\t\) is driven Low, the device enters the reset (See Datasheet)", 4 ~{S} (in) "When this input signal is High, the device is deselected and serial data output (Q) is at high impedance. Unless an internal read, program, erase or write cycle is in progress, the device will be in the standby mode (this is (See Datasheet)", 5 ~{W} (in) "This input signal puts the device in the hardware protected mode, when Write Protect (W\) is connected to VSS, causing the first 256 pages of memory to become read-only by protecting them from write, program and erase (See Datasheet)", 6 VCC (power) "VCC is the supply voltage", 7 VSS (power) "VSS is the reference for the VCC supply voltage", 8 Q (hiz) "This output signal is used to transfer data serially out of the device. Data is shifted out on the falling edge of Serial Clock (C)."

## M45PE16-VMW6TG
designator U?
16 Mb (x1) Serial NOR Flash Memory with Page Erase, 75 MHz, 2.7 to 3.6 V, 8-pin SO8 Wide (MW), Tape & Reel; Part Family: M45PE; Manufacturer: Micron; PartNumber: M45PE16-VMW6TG; Density: 16Mb; Speed: 75 MHz; Voltage: 2.7V-3.6V; DatasheetVersion: Rev. 8; PackageVersion: Rev 8; PackageReference: MICT-MW-8; PackageDescription: 8-Pin SO Wide, 5.62 X 6.05 mm, Pitch 1.27 mm; Applications: Embedded; Package: SO8 Wide; Part Status: Production; RoHS: Yes; Type: Page Erase; Width: x1; Mounting Technology: Surface Mount; ComponentLink1Description: Manufacturer URL; ComponentLink1URL: http://www.micron.com/; ComponentLink2Description: Datasheet; ComponentLink2URL: http://www.micron.com/~/media/Documents/Products/Data%20Sheet/NOR%20Flash/Serial%20NOR/M25PE_M45PE/M45PE16.pdf; ComponentLink3Description: Package Specification; ComponentLink3URL: http://www.micron.com/~/media/Documents/Products/Data%20Sheet/NOR%20Flash/Serial%20NOR/M25P/M25P16.pdf
footprint MICT-MW-8_N (SOIC, 8-Leads, Body 6.2x6.1mm, Pitch 1.27mm, IPC Medium Density)
pins: 1 D (in) "This input signal is used to transfer data serially into the device. It receives instructions, addresses, and the data to be programmed. Values are latched on the rising edge of Serial Clock (C).", 2 C (in) "This input signal provides the timing of the serial interface. Instructions, addresses, or data present at serial data input (D) are latched on the rising edge of Serial Clock (C). Data on serial data output (Q) changes (See Datasheet)", 3 ~{RESET} (in) "The Reset (R\e\s\e\t\) input provides a hardware reset for the memory. When Reset (R\e\s\e\t\) is driven High, the memory is in the normal operating mode. When Reset (R\e\s\e\t\) is driven Low, the device enters the reset (See Datasheet)", 4 ~{S} (in) "When this input signal is High, the device is deselected and serial data output (Q) is at high impedance. Unless an internal read, program, erase or write cycle is in progress, the device will be in the standby mode (this is (See Datasheet)", 5 ~{W} (in) "This input signal puts the device in the hardware protected mode, when Write Protect (W\) is connected to VSS, causing the first 256 pages of memory to become read-only by protecting them from write, program and erase (See Datasheet)", 6 VCC (power) "VCC is the supply voltage", 7 VSS (power) "VSS is the reference for the VCC supply voltage", 8 Q (hiz) "This output signal is used to transfer data serially out of the device. Data is shifted out on the falling edge of Serial Clock (C)."

## M45PE20-VMN6P
designator U?
2 Mb (x1) Serial NOR Flash Memory with Page Erase, 75 MHz, 2.7 to 3.6 V, 8-pin SO8 Narrow (MN), Tube; Part Family: M45PE; Manufacturer: Micron; PartNumber: M45PE20-VMN6P; Density: 2Mb; Speed: 75 MHz; Voltage: 2.7V-3.6V; DatasheetVersion: Rev.6; PackageVersion: Rev 11; PackageReference: MICT-MN-8; PackageDescription: 8-Pin SO Narrow, 3.9 X 4.9 mm, Pitch 1.27 mm; Applications: Embedded; Package: SO8 Narrow; Part Status: Production; RoHS: Yes; Type: Page Erase; Width: x1; Mounting Technology: Surface Mount; ComponentLink1Description: Manufacturer URL; ComponentLink1URL: http://www.micron.com/; ComponentLink2Description: Datasheet; ComponentLink2URL: http://www.micron.com/~/media/Documents/Products/Data%20Sheet/NOR%20Flash/Serial%20NOR/M25PE_M45PE/M45PE20.pdf; ComponentLink3Description: Package Specification; ComponentLink3URL: http://www.micron.com/~/media/Documents/Products/Data%20Sheet/NOR%20Flash/Serial%20NOR/M25P/M25P05A.pdf
footprint MICT-MN-8_N (SOIC, 8-Leads, Body 5x4mm, Pitch 1.27mm, IPC Medium Density)
pins: 1 D (in) "Serial data input", 2 C (in) "Serial Clock", 3 ~{RESET} (in) "Reset", 4 ~{S} (in) "Chip Select", 5 ~{W} (in) "Write Protect", 6 VCC (power) "Supply voltage", 7 VSS (power) "Ground", 8 Q (hiz) "Serial data output"